# Altium schematic symbol library SWITCH.SchLib: 5 symbols
Pins are listed as number, name and electrical type; pins without a type are passive.

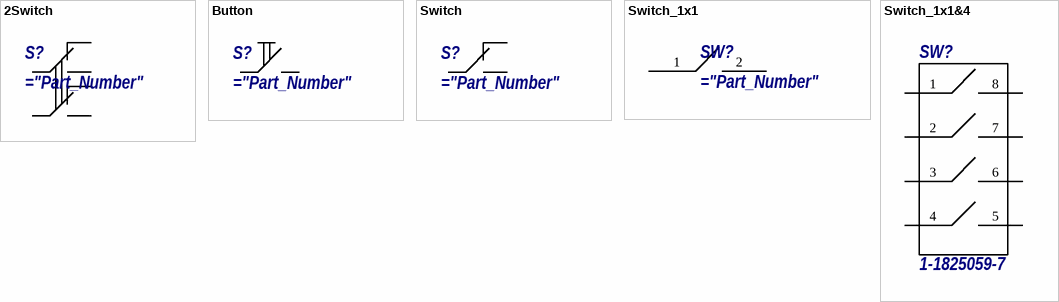
[diagram p0: symbols 2Switch to Switch_1x1&4]

## 2Switch
designator S?
="Purchase"
pins: 1, 2, 3, 4, 5, 6

## Button
designator S?
="Purchase"
pins: 1, 2

## Switch
designator S?
="Purchase"
pins: 1, 2, 3

## Switch_1x1
designator SW?
="Purchase"
pins: 1, 2

## Switch_1x1&4
designator SW?, comment 1-1825059-7
="Purchase"; Manufacturer_Name: TE Connectivity / TE Connectivity; Value: -30-85°C; Voltage: 24V; Part_Number: 1-1825059-7; RefDes: SW; Datasheet Link: TE Connectivity - Switches Core Program.pdf
footprint SW_1-1825059-7
pins: 1, 2, 3, 4, 5, 6, 7, 8